# EAGLE library part ACS711 (library jack_IC)
ACS711 Hall-Effect Linear Current Sensor https://www.allegromicro.com/~/media/Files/Datasheets/ACS711-Datasheet.ashx
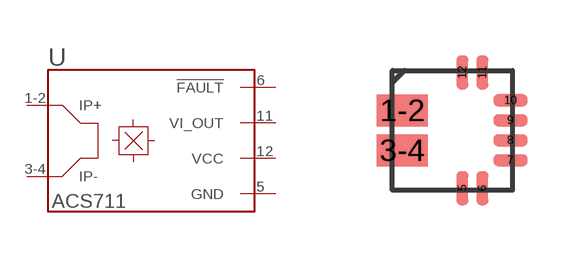
[diagram p10: symbol with the pads of ACS711EX; footprint ACS711EX]

Designator prefix U

## ACS711EX  [ACS711EX]
1-2  IP+
3-4  IP-
5  GND
6  !FAULT
11  VI_OUT
12  VCC

## Footprint ACS711EX (pad centres in mm)
smd 1.27 x 0.8: 1-2 -1.25,0.5; 3-4 -1.25,-0.5
smd 0.3 x 0.85: 5 0.25,-1.45; 6 0.75,-1.45; 11 0.75,1.45; 12 0.25,1.45
smd 0.85 x 0.3: 7 1.45,-0.75; 8 1.45,-0.25; 9 1.45,0.25; 10 1.45,0.75